# EAGLE library part BORNIER_10 (library Clean-Kong)
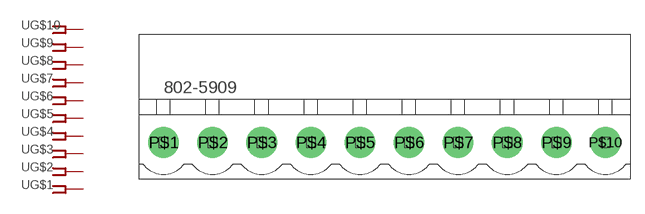
[diagram p21: symbol with the pads of MSTBV2.5/10; footprint MSTBV2.5/10]

Designator prefix -; gates G$1=FPIN G$2=FPIN G$3=FPIN G$4=FPIN G$5=FPIN G$6=FPIN G$7=FPIN G$8=FPIN G$9=FPIN G$10=FPIN

## BORNIER_10  [MSTBV2.5/10]
P$1  G$1:1  pas
P$2  G$2:1  pas
P$3  G$3:1  pas
P$4  G$4:1  pas
P$5  G$5:1  pas
P$6  G$6:1  pas
P$7  G$7:1  pas
P$8  G$8:1  pas
P$9  G$9:1  pas
P$10  G$10:1  pas

## Footprint MSTBV2.5/10 (pad centres in mm)
drill 1.5 pad 3.175: P$1 0,0; P$2 5.08,0; P$3 10.16,0; P$4 15.24,0; P$5 20.32,0; P$6 25.4,0; P$7 30.48,0; P$8 35.56,0; P$9 40.64,0; P$10 45.72,0